# Altium schematic symbol library Grid_Aux.SchLib: 6 symbols
Pins are listed as number, name and electrical type; pins without a type are passive.

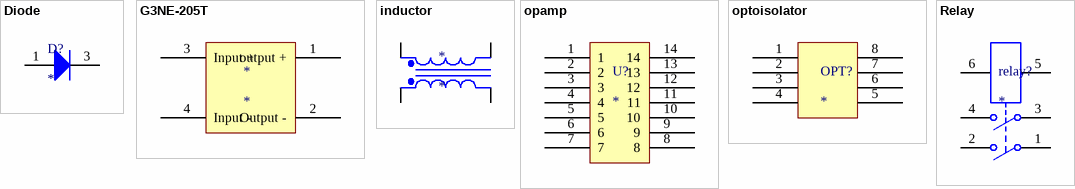
[diagram p0: symbols Diode to Relay]

## Diode
designator D?
footprint Diode
pins: 1 A, 3 K

## G3NE-205T
designator *
footprint G3NE-205T
footprint G3NE-205T
pins: 1 output +, 2 Output -, 3 Input +, 4 Input -

## inductor
designator *
footprint inductor
pins: 1 Sec+, 2 Sec-, 3 Pri+, 4 Pri-

## opamp
designator U?
footprint opamp
pins: 1, 2, 3, 4, 5, 6, 7, 8, 9, 10, 11, 12, 13, 14

## optoisolator
designator OPT?
footprint optoisolator
pins: 1, 2, 3, 4, 5, 6, 7, 8

## Relay
designator relay?
footprint Relay
pins: 1, 2, 3, 4, 5, 6